# EAGLE library part WANNENSTECKER-6 (library iceberg20)
Wannenbuchse(Stiftleiste) 6-Polig, 2-reihig Datenblatt: Link <https://www.buerklin.com/medias/sys_master/root/h7f/h1f/8866195406878/8866195406878.pdf>
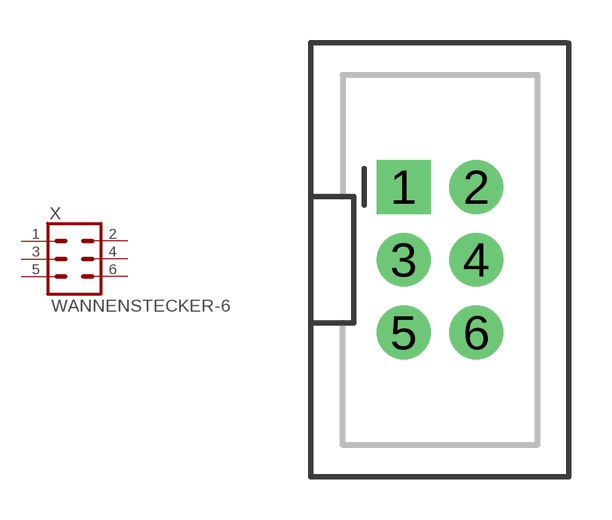
[diagram p0: symbol with the pads of 2X3; footprint 2X3]

Designator prefix X

## WANNENSTECKER-6 (BESTAND: 6; HERSTELLER: Harting; HERSTELLER-NR: 09185066324; SUPPLIER: Bürklin; SUPPLIER-NR: 53F4200)  [2X3]
1  1  pas
2  2  pas
3  3  pas
4  4  pas
5  5  pas
6  6  pas

## Footprint 2X3 (pad centres in mm)
Plated Through Hole - 2x3 Shrouded Header Specifications: Pin count:6 Pin pitch:0.1" Datasheet referenced for footprint <https://www.sparkfun.com/datasheets/Prototyping/Shrouded-10pin.pdf> Example device(s): CONN_03x2
drill 1 pad 1.88 square: 1 -1.27,2.54
drill 1 pad 1.88: 2 1.27,2.54; 3 -1.27,0; 4 1.27,0; 5 -1.27,-2.54; 6 1.27,-2.54